# Altium schematic symbol library PCA9306.SchLib: 1 symbol
Pins are listed as number, name and electrical type; pins without a type are passive.

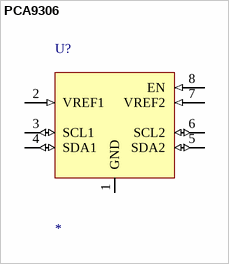
[diagram p0: symbol PCA9306]

## PCA9306
designator U?
pins: 1 GND (power), 2 VREF1 (in), 3 SCL1 (io), 4 SDA1 (io), 5 SDA2 (io), 6 SCL2 (io), 7 VREF2 (in), 8 EN (in)